# Altium schematic symbol library module.SchLib: 1 symbol
Pins are listed as number, name and electrical type; pins without a type are passive.

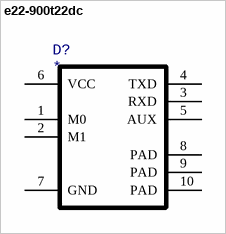
[diagram p0: symbol e22-900t22dc]

## e22-900t22dc
designator D?
pins: 1 M0, 2 M1, 3 RXD, 4 TXD, 5 AUX, 6 VCC, 7 GND, 8 PAD, 9 PAD, 10 PAD